# Altium schematic symbol library 207843-0003.SchLib: 1 symbol
Pins are listed as number, name and electrical type; pins without a type are passive.

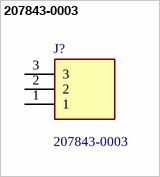
[diagram p0: symbol 207843-0003]

## 207843-0003
designator J?
Headers & Wire Housings HEADER ASSEMBLY FOR L1NK 250 1X3 Ckt; Manufacturer_Name: Molex; Geometry.Height: 6.95mm; Manufacturer_Part_Number: 207843-0003; Mouser Part Number: 538-207843-0003; Mouser Price/Stock: https://www.mouser.co.uk/ProductDetail/Molex/207843-0003?qs=XeJtXLiO41TegXAHRiYnCg%3D%3D; Arrow Part Number: 207843-0003; Arrow Price/Stock: https://www.arrow.com/en/products/2078430003/molex?region=nac; Datasheet Link: https://www.molex.com/pdm_docs/sd/2078430003_sd.pdf
footprint 2078430003
pins: 1, 2, 3